# Altium schematic symbol library Connectors_EFR.SchLib: 133 symbols (part 2 of 3)
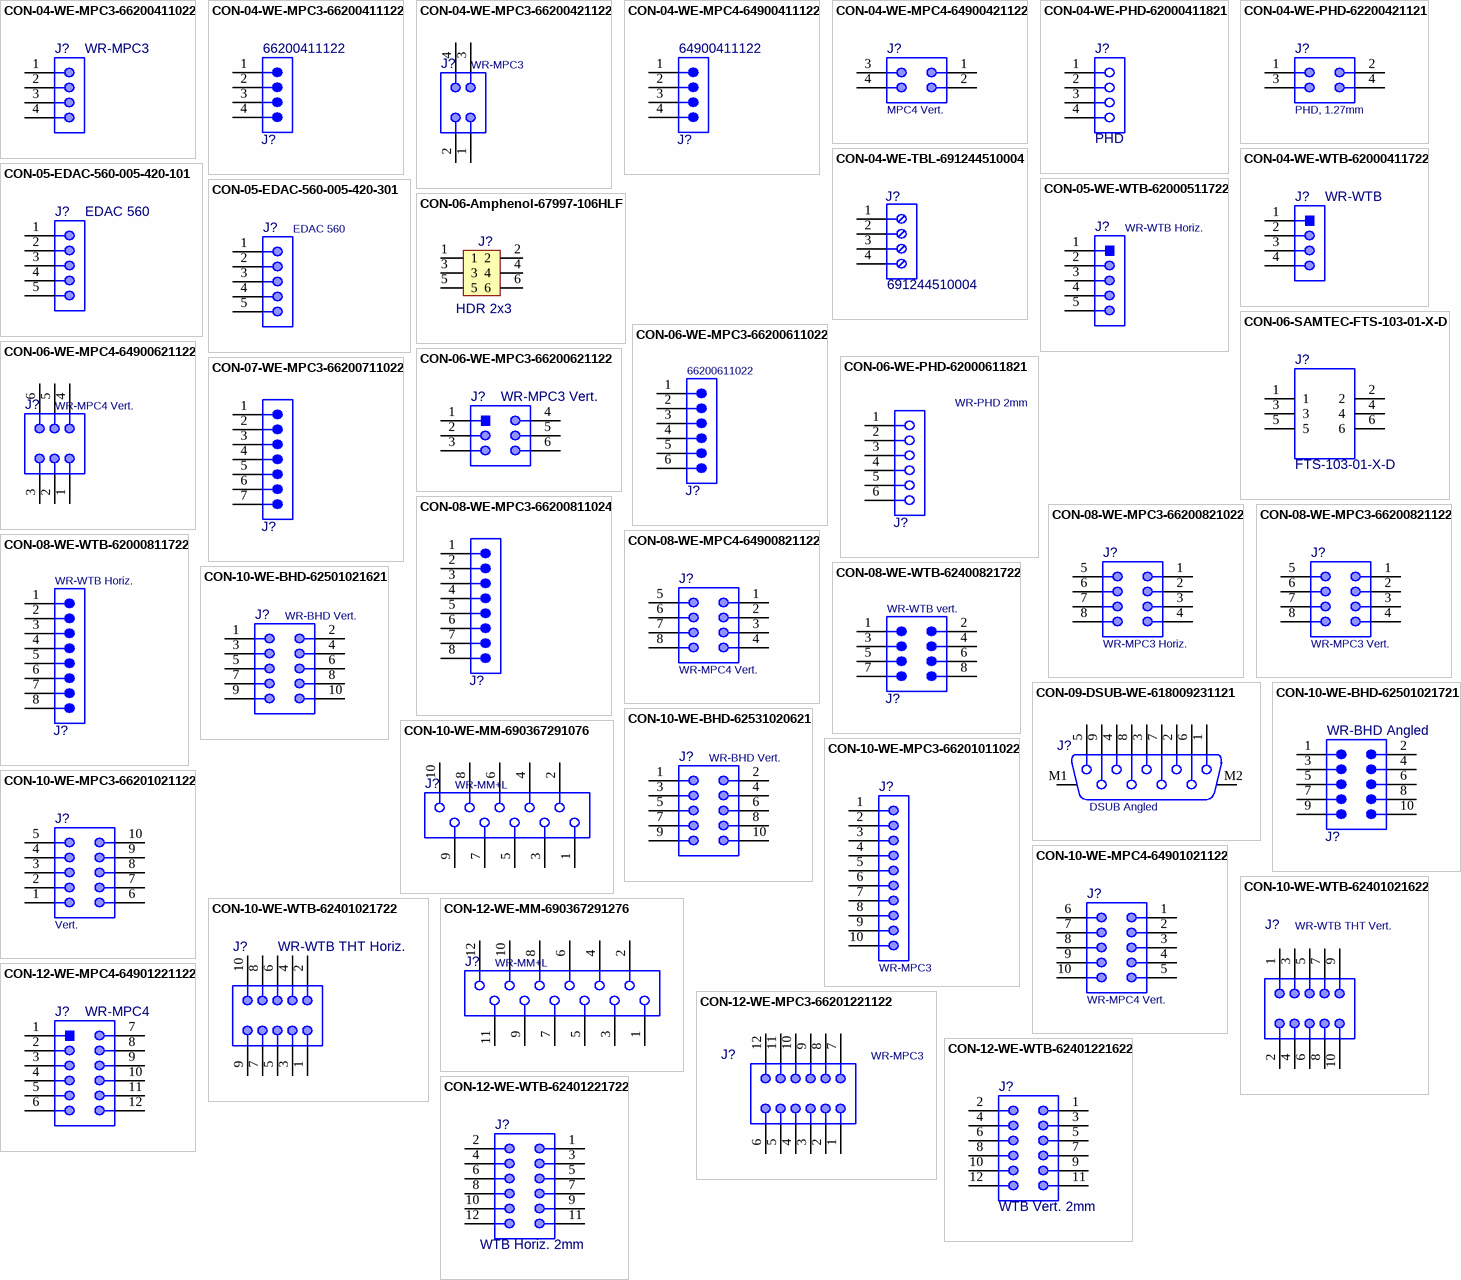
[diagram p5: symbols CON-04-WE-MPC3-66200411022 to CON-12-WE-WTB-62401221722]

## CON-08-WE-WTB-62400821722
designator J?, comment WR-WTB vert.
WR-WTB THT Male Horizontal Shrouded Header with positive locking, Dual Row, pitch 2mm, 8pins; Manufacturer P/N: 62400821722; Manufacturer: Würth Elektronik; Contact Resistance: 20mOhm; Rated Current: 3A; Working Voltage: 250VAC; Withstanding Voltage: 1000VAC; ComponentLink1Description: Website Link; ComponentLink1URL: https://www.we-online.com/redexpert/article/62400821722?ad; ComponentLink2Description: Datasheet Link; ComponentLink2URL: https://www.we-online.com/redexpert/spec/62400821722?ad; Category: Wire-to-Board Connectors; Match Code: WR-WTB; Mounting Technology: THT; Operating Temperature Max: 85°C; Operating Temperature Min: -25°C; Packaging: Tube; Length: 11.4mm; Width: 14.5mm; Height: 11.7mm; Gender: Male; Number of Pins: 8; Number of Rows: 2; Orientation: Horizontal; Pitch: 2mm
footprint 62400821722
pins: 1, 2, 3, 4, 5, 6, 7, 8

## CON-09-DSUB-WE-618009231121
designator J?, comment DSUB Angled
WR-DSUB 8.08mm Female PCB Connector with Hex Screw, Angled, 9p; Manufacturer P/N: 618009231121; Manufacturer: Würth Elektronik; Pin Number: 9; Rated Current: 3A; Contact Resistance: 30mOhm; Working Voltage: 125VAC; Withstanding Voltage: 1000VAC; ComponentLink1Description: Manufacturer; ComponentLink1URL: https://www.we-online.com/en/components/products/DSUB_FEMALE_ANGLED_PCB_CONNECTOR_W_HEX_SCREW_8_08MM_6180XX231121#618009231121; ComponentLink2Description: Datasheet; ComponentLink2URL: https://www.we-online.com/catalog/datasheet/618009231121.pdf; Published Date: April 2021; Type: Angled; Operating Temperature: -55 to +105degC; Mounting Technology: THT; Gender: Female; Packaging: Tray
footprint CON-09-DSUB-WE-618009231121 (9 pins, right angled, 8.08mm, with hex screw)
pins: 1, 2, 3, 4, 5, 6, 7, 8, 9, M1, M2

## CON-10-WE-BHD-62501021621
designator J?, comment WR-BHD Vert.
Male Box Header WR-BHD with long lever, THT, Vertical, pitch 2.00 mm, 10 pins; Manufacturer P/N: 62501021621; Manufacturer: Würth Elektronik; PinNumber: 10; Pitch: 2.00 mm; Working Voltage: 250 VAC; Withstanding Voltage: 500 VAC; Contact Resistance: 20 mOhm; Current (A): 3; ComponentLink1Description: Manufacturer; ComponentLink1URL: http://www.we-online.de; ComponentLink2Description: Datasheet; ComponentLink2URL: https://katalog.we-online.de/em/datasheet/6250xx21621.pdf; Operating Temperature: -40 to 125 degC; Packaging: Tray; Gender: Male; Mounting Technology: THT; Orientation: Vertical; Resistance: 20 mOhm; Capacitance: *; Tolerance: *; Power (W): *; Voltage (V): 250 VAC; Typ: *
footprint CON-10-WE-BHD-62501021621 (2.00mm Male Box Header, 10p)
pins: 1, 2, 3, 4, 5, 6, 7, 8, 9, 10

## CON-10-WE-BHD-62501021721
designator J?, comment WR-BHD Angled
WR-BHD Male Box Header, THT Right Angle, pitch 2mm, 2 Row, 10 pin; Manufacturer P/N: 62501021721; Manufacturer: Würth Elektronik; Contact Resistance: 20mOhm; Insulation Resistance: 1000MOhm; Rated Current: 2A; Working Voltage: 250V; Withstanding Voltage: 500V; Category: Wire-to-Board Connectors; Match Code: WR-BHD; ComponentLink1Description: Website Link; ComponentLink1URL: https://www.we-online.com/redexpert/article/62501021721?ad; ComponentLink2Description: Datasheet Link; ComponentLink2URL: https://www.we-online.com/redexpert/spec/62501021721?ad; Mounting Technology: THT; Operating Temperature Max: 105°C; Operating Temperature Min: -40°C; Packaging: Tray; Length: 17.25mm; Width: 8.45mm; Height: 5.5mm; Gender: Male; Number of Pins: 10; Number of Rows: 2; Orientation: Right Angle; Pitch: 2mm
footprint CON-10-WE-BHD-62501021721 (2.00mm Male Angled Box Header, 10p)
pins: 1, 2, 3, 4, 5, 6, 7, 8, 9, 10

## CON-10-WE-BHD-62531020621
designator J?, comment WR-BHD Vert.
Male Box Header WR-BHD, SMT, Vertical, pitch 2.00 mm, 10 pins; Manufacturer P/N: 62531020621; Manufacturer: Würth Elektronik; PinNumber: 10; Pitch: 2.00 mm; Working Voltage: 250 VAC; Withstanding Voltage: 500 VAC; Contact Resistance: 20 mOhm; Current (A): 2; ComponentLink1Description: Manufacturer; ComponentLink1URL: http://www.we-online.de; ComponentLink2Description: Datasheet; ComponentLink2URL: https://katalog.we-online.de/em/datasheet/6253xx20621.pdf; Operating Temperature: -40 to 105 degC; Packaging: Tape and Reel; Gender: Male; Mounting Technology: SMT; Orientation: Vertical; Resistance: 20 mOhm; Capacitance: *; Tolerance: *; Value: *; Voltage (V): 250 VAC; Power (W): *; Typ: *
footprint CON-10-WE-BHD-62531020621 (2.00mm Male SMT Box Header, 10p)
pins: 1, 2, 3, 4, 5, 6, 7, 8, 9, 10

## CON-10-WE-MM-690367291076
designator J?, comment WR-MM+L
WR-MM MiniModule Connector, Female, SMT, Vertical, pitch 2.54mm, 10pins; Manufacturer P/N: 690367291076; Manufacturer: Würth Elektronik; PinNumber: 10; Insulation Resistance: >1000MOhm; Rated Current: 1.5A; Working Voltage: 100VAC; Withstanding Voltage: 500VAC; Contact Resistance: 10mOhm; Resistance: 0R010; Current (A): 1.5; Voltage (V): 100; ComponentLink1Description: Manufacturer; ComponentLink1URL: http://www.we-online.de; ComponentLink2Description: Datasheet; ComponentLink2URL: https://katalog.we-online.de/em/datasheet/690367291076.pdf; Published Date: June 2019; Publisher: Wurth Elektronik; Pitch: 2.54mm; Operating Temperature: -40 to +105degC; Mounting Technology: SMT; Packaging: Tape and Reel; Gender: Female; Orientation: Vertical; Capacitance: *; Power (W): *; Value: =PartNumber; Tolerance: *; Type: *
footprint CON-10-WE-690367291076 (MiniModule Connectors, PCB Type, Female, SMT, Vertical, 10p)
pins: 1, 2, 3, 4, 5, 6, 7, 8, 9, 10

## CON-10-WE-MPC3-66201011022
designator J?, comment WR-MPC3
THT Male Header WR-MPC3, with Snap-in Plastic Pegs, Right Angled, Single Row, pitch 3 mm, 10 pins; Manufacturer P/N: 66201011022; Manufacturer: Würth Elektronik; Pitch: 3 mm; Working Voltage: 250 VAC; Contact Resistance: 10 mOhm; PinNumber: 10; ComponentLink1Description: Manufacturer; ComponentLink1URL: http://www.we-online.de; ComponentLink2Description: Datasheet; ComponentLink2URL: https://katalog.we-online.de/em/datasheet/6620xx11022.pdf; Published Date: September 2018; Operating Temperature: -40 to 105 degC; Packaging: Tube; Gender: Male; Mounting Technology: THT; Orientation: Right Angled
footprint CON-10-WE-66201011022 (3.00mm Male Single Row Angled Header with Plastic Pegs, 10p)
pins: 1, 2, 3, 4, 5, 6, 7, 8, 9, 10

## CON-10-WE-MPC3-66201021122
designator J?, comment Vert.
THT Male Header WR-MPC3, Vertical, Dual Row, pitch 3 mm, 10 pins; Manufacturer P/N: 66201021122; Manufacturer: Würth Elektronik; Pitch: 3 mm; Working Voltage: 250 VAC; Contact Resistance: 10 mOhm; Pin Number: 10; ComponentLink1Description: Manufacturer; ComponentLink1URL: https://www.we-online.com/catalog/en/MPC3_3_00_MALE_DUAL_ROW_VERTICAL_HEADER_6620XX21122#66201021122; ComponentLink2Description: Datasheet; ComponentLink2URL: https://katalog.we-online.de/em/datasheet/6620xx21122.pdf; Published Date: September 2018; Operating Temperature: -40 to 105 degC; Packaging: Tube; Gender: Male; Mounting Technology: THT; Orientation: Vertical
footprint CON-10-WE-66201021122 (Dual row Vertical header 10p)
pins: 1, 2, 3, 4, 5, 6, 7, 8, 9, 10

## CON-10-WE-MPC4-64901021122
designator J?, comment WR-MPC4 Vert.
THT Male Header WR-MPC4, Vertical, Dual Row, pitch 4.2 mm, 10 pins; Manufacturer P/N: 64901021122; Manufacturer: Würth Elektronik; Pitch: 4.2 mm; Working Voltage: 600 VAC; Contact Resistance: 10 mOhm; PinNumber: 10; ComponentLink1Description: Manufacturer; ComponentLink1URL: http://www.we-online.de; ComponentLink2Description: Datasheet; ComponentLink2URL: https://katalog.we-online.de/em/datasheet/6490xx21122.pdf; Published Date: September 2018; Operating Temperature: -40 to 105 degC; Packaging: Tray; Gender: Male; Mounting Technology: THT; Orientation: Vertical
footprint CON-10-WE-64901021122 (4.20mm Male Dual Row Vertical Header, 10p)
pins: 1, 2, 3, 4, 5, 6, 7, 8, 9, 10

## CON-10-WE-WTB-62401021622
designator J?, comment WR-WTB THT Vert.
WR-WTB THT Male Vertical Shrouded Header with positive locking, Dual Row, pitch 2mm, 10p; Manufacturer: Würth Elektronik; Manufacturer P/N: 62401021622; Pin Number: 10; Contact Resistance: 20mOhm; Rated Current: 3A; Withstanding Voltage: 1000VAC; Working Voltage: 250VAC; ComponentLink1Description: Manufacturer; ComponentLink1URL: https://www.we-online.com/catalog/en/WTB_2_00_MALE_DUAL_ROW_VERTICAL_SHROUDED_HEADER_W_POSITIVE_LOCKING_6240XX21622#62401021622; ComponentLink2Description: Datasheet; ComponentLink2URL: https://www.we-online.com/catalog/datasheet/62401021622.pdf; Pitch: 2mm; Published Date: January 2020; Mounting Technology: THT; Packaging: Tube; Operating Temperature: -25 to +85degC; Gender: Male; Type: Vertical
footprint CON-10-WE-62401021622 (2.00mm Male Dual Row Vertical Shrouded Header with positive locking, 10p)
pins: 1, 2, 3, 4, 5, 6, 7, 8, 9, 10

## CON-10-WE-WTB-62401021722
designator J?, comment WR-WTB THT Horiz.
WR-WTB THT Male Horizontal Shrouded Header with positive locking, Dual Row, pitch 2mm, 10p; Manufacturer: Würth Elektronik; Manufacturer P/N: 62401021722; Pin Number: 10; Contact Resistance: 20mOhm; Rated Current: 3A; Withstanding Voltage: 1000VAC; Working Voltage: 250VAC; ComponentLink1Description: Manufacturer; ComponentLink1URL: https://www.we-online.com/catalog/en/WTB_2_00_MALE_DUAL_ROW_HORIZONTAL_SHROUDED_HEADER_W_POSITIVE_LOCKING_6240XX21722#62401021722; ComponentLink2Description: Datasheet; ComponentLink2URL: https://www.we-online.com/catalog/datasheet/62401021722.pdf; Pitch: 2mm; Published Date: January 2020; Mounting Technology: THT; Packaging: Tube; Operating Temperature: -25 to +85degC; Gender: Male; Type: Horizontal
footprint CON-10-WE-62401021722 (2.00mm Male Dual Row Horizontal Shrouded Header with positive locking, 10p)
pins: 1, 2, 3, 4, 5, 6, 7, 8, 9, 10

## CON-12-WE-MM-690367291276
designator J?, comment WR-MM+L
WR-MM MiniModule Connector, Female, SMT, Vertical, pitch 2.54mm, 12pins; Manufacturer P/N: 690367291276; Manufacturer: Würth Elektronik; PinNumber: 12; Insulation Resistance: >1000MOhm; Rated Current: 1.5A; Working Voltage: 100VAC; Withstanding Voltage: 500VAC; Contact Resistance: 10mOhm; Voltage (V): 100; Current (A): 1,5; Resistance: 0R010; ComponentLink1Description: Manufacturer; ComponentLink1URL: http://www.we-online.de; ComponentLink2Description: Datasheet; ComponentLink2URL: https://katalog.we-online.de/em/datasheet/690367291276.pdf; Published Date: June 2019; Publisher: Wurth Elektronik; Pitch: 2.54mm; Operating Temperature: -40 to +105degC; Mounting Technology: SMT; Packaging: Tape and Reel; Gender: Female; Orientation: Vertical; Value: =PartNumber; Capacitance: *; Power (W): *; Tolerance: *; Type: *
footprint CON-12-WE-690367291276 (MiniModule Connectors, PCB Type, Female, SMT, Vertical, 12p)
pins: 1, 2, 3, 4, 5, 6, 7, 8, 9, 10, 11, 12

## CON-12-WE-MPC3-66201221122
designator J?, comment WR-MPC3
THT Male Header WR-MPC3, Vertical, Dual Row, pitch 3 mm, 12 pins; Manufacturer P/N: 66201221122; Manufacturer: Würth Elektronik; Pitch: 3 mm; Working Voltage: 250 VAC; Contact Resistance: 10 mOhm; PinNumber: 12; ComponentLink1Description: Manufacturer; ComponentLink1URL: http://www.we-online.de; ComponentLink2Description: Datasheet; ComponentLink2URL: https://katalog.we-online.de/em/datasheet/6620xx21122.pdf; Published Date: September 2018; Operating Temperature: -40 to 105 degC; Packaging: Tube; Gender: Male; Mounting Technology: THT; Orientation: Vertical
footprint CON-12-WE-66201221122 (Dual row Vertical header 12p)
pins: 1, 2, 3, 4, 5, 6, 7, 8, 9, 10, 11, 12

## CON-12-WE-MPC4-64901221122
designator J?, comment WR-MPC4
THT Male Header WR-MPC4, Vertical, Dual Row, pitch 4.2 mm, 12 pins; Manufacturer P/N: 64901221122; Manufacturer: Würth Elektronik; Contact Resistance: 10mOhm; Pitch: 4.2mm; Working Voltage: 600VAC; PinNumber: 12; Mounting Technology: THT; Publisher: WurthElektronik; Operating Temperature: -40to105degC; Gender: Male; Package Reference: 64901221122; Datasheet URL: https://katalog.we-online.de/em/datasheet/6490xx21122.pdf; Orientation: Vertical; ComponentLink1Description: Datenblatt; ComponentLink1URL: https://katalog.we-online.de/em/datasheet/64901221122.pdf; ComponentLink2Description: Hersteller; ComponentLink2URL: https://katalog.we-online.de/de/em/MPC4_4_20_MALE_DUAL_ROW_VERTICAL_HEADER_6490XX21122
footprint CON-12-WE-64901221122 (Footprint not found)
pins: 1, 2, 3, 4, 5, 6, 7, 8, 9, 10, 11, 12

## CON-12-WE-WTB-62401221622
designator J?, comment WTB Vert. 2mm
WR-WTB THT Male Vertical Shrouded Header with positive locking, Dual Row, pitch 2mm, 12p; Manufacturer: Würth Elektronik; Manufacturer P/N: 62401221622; Pin Number: 12; Contact Resistance: 20mOhm; Rated Current: 3A; Withstanding Voltage: 1000VAC; Working Voltage: 250VAC; ComponentLink1Description: Manufacturer; ComponentLink1URL: http://www.we-online.de; ComponentLink2Description: Datasheet; ComponentLink2URL: https://www.we-online.com/catalog/datasheet/62401221622.pdf; Pitch: 2mm; Published Date: January 2020; Mounting Technology: THT; Packaging: Tube; Operating Temperature: -25 to +85degC; Gender: Male; Type: Vertical
footprint CON-12-WE-62401221622 (2.00mm Male Dual Row Vertical Shrouded Header with positive locking, 12p)
footprint CON-12-WE-WTB-62401221722 (2.00mm Male Dual Row Horizontal Shrouded Header with positive locking, 12p)
pins: 1, 2, 3, 4, 5, 6, 7, 8, 9, 10, 11, 12

## CON-12-WE-WTB-62401221722
designator J?, comment WTB Horiz. 2mm
WR-WTB THT Male Horizontal Shrouded Header with positive locking, Dual Row, pitch 2mm, 12p; Manufacturer: Würth Elektronik; Manufacturer P/N: 62401221722; Pin Number: 12; Contact Resistance: 20mOhm; Rated Current: 3A; Withstanding Voltage: 1000VAC; Working Voltage: 250VAC; ComponentLink1Description: Manufacturer; ComponentLink1URL: https://www.we-online.com/katalog/de/WTB_2_00_MALE_DUAL_ROW_HORIZONTAL_SHROUDED_HEADER_W_POSITIVE_LOCKING_6240XX21722#62401221722; ComponentLink2Description: Datasheet; ComponentLink2URL: https://www.we-online.com/catalog/datasheet/62401221722.pdf; Pitch: 2mm; Mounting Technology: THT; Packaging: Tube; Operating Temperature: -25 to +85degC; Gender: Male; Orientation: Horizontal
footprint CON-12-WE-62401221722 (2.00mm Male Dual Row Horizontal Shrouded Header with positive locking, 12p)
pins: 1, 2, 3, 4, 5, 6, 7, 8, 9, 10, 11, 12

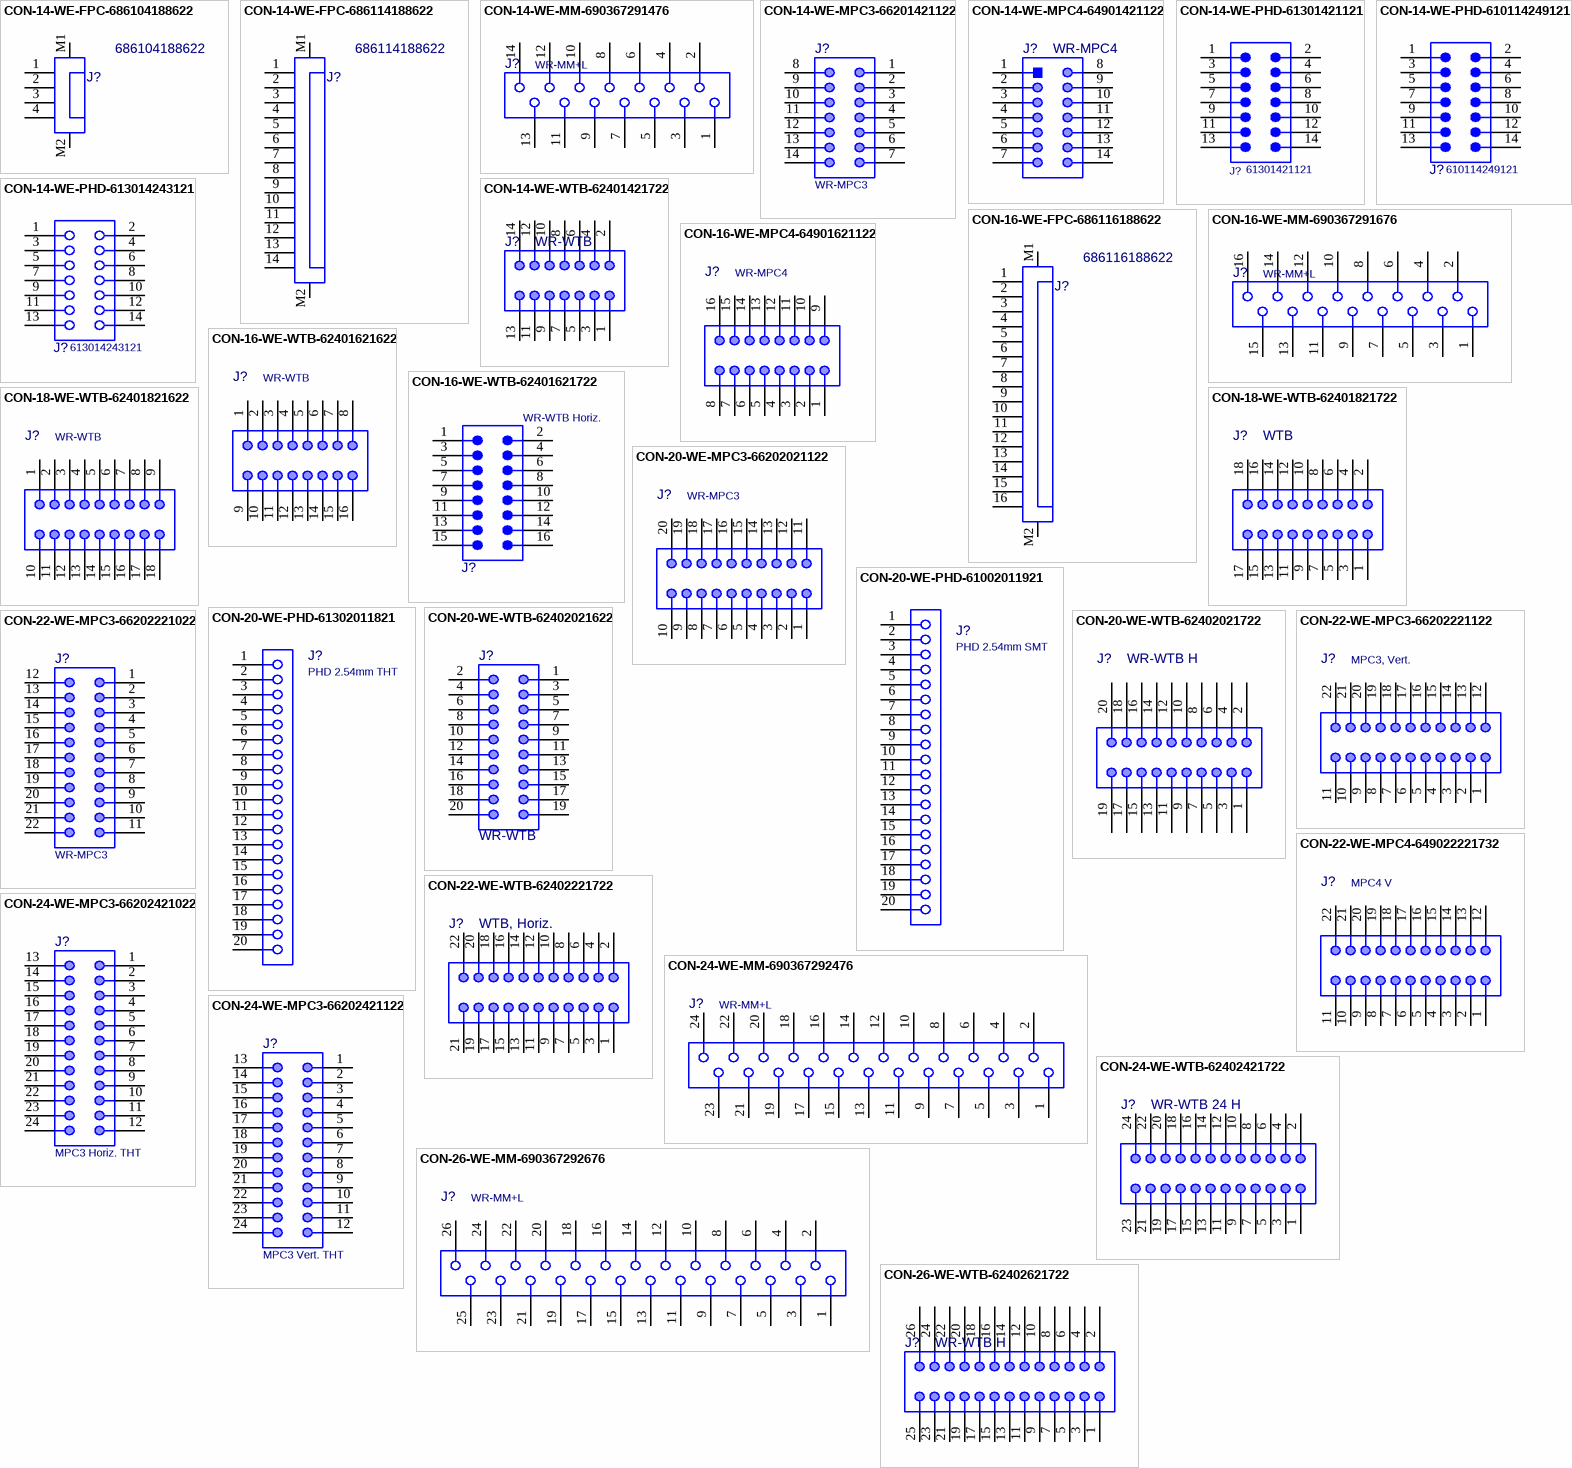
[diagram p2: symbols CON-14-WE-FPC-686104188622 to CON-26-WE-WTB-62402621722]

## CON-14-WE-FPC-686104188622
designator J?, comment 686104188622
WR-FPC SMT LIF Horizontal Top Contact, pitch 1mm, Horizontal, 4pins; Manufacturer: Würth Elektronik; Contact Resistance: 30mΩ; Rated Current: 1A; Working Voltage: 125VAC; ComponentLink1Description: Website Link; ComponentLink1URL: https://www.we-online.com/redexpert/article/686104188622?ad; ComponentLink2Description: Datasheet Link; ComponentLink2URL: https://www.we-online.com/redexpert/spec/686104188622?ad; Manufacturer P/N: 686104188622; Category: FPC Connectors; Match Code: WR-FPC; Mounting Technology: SMT; Operating Temperature Max: 85°C; Operating Temperature Min: -25°C; Packaging: Tape and Reel; Length: 7.8mm; Width: 6.8mm; Height: 3.1mm; Number of Pins: 4; Orientation: Horizontal; Pitch: 1mm
footprint 686104188622
pins: 1, 2, 3, 4, M1, M2

## CON-14-WE-FPC-686114188622
designator J?, comment 686114188622
WR-FPC SMT LIF Horizontal Top Contact, pitch 1mm, Horizontal, 14pins; Manufacturer: Würth Elektronik; Contact Resistance: 30mΩ; Rated Current: 1A; Working Voltage: 125VAC; ComponentLink1Description: Website Link; ComponentLink1URL: https://www.we-online.com/redexpert/article/686114188622?ad; ComponentLink2Description: Datasheet Link; ComponentLink2URL: https://www.we-online.com/redexpert/spec/686114188622?ad; Manufacturer P/N: 686114188622; Category: FPC Connectors; Match Code: WR-FPC; Mounting Technology: SMT; Operating Temperature Max: 85°C; Operating Temperature Min: -25°C; Packaging: Tape and Reel; Length: 17.8mm; Width: 6.8mm; Height: 3.1mm; Number of Pins: 14; Orientation: Horizontal; Pitch: 1mm
footprint 686114188622
pins: 1, 2, 3, 4, 5, 6, 7, 8, 9, 10, 11, 12, 13, 14, M1, M2

## CON-14-WE-MM-690367291476
designator J?, comment WR-MM+L
WR-MM MiniModule Connector, Female, SMT, Vertical, pitch 2.54mm, 14pins; Manufacturer P/N: 690367291476; Manufacturer: Würth Elektronik; PinNumber: 14; Insulation Resistance: >1000MOhm; Rated Current: 1.5A; Working Voltage: 100VAC; Withstanding Voltage: 500VAC; Contact Resistance: 10mOhm; Resistance: 0R010; Current (A): 1.5; Voltage (V): 100; ComponentLink1Description: Manufacturer; ComponentLink1URL: http://www.we-online.de; ComponentLink2Description: Datasheet; ComponentLink2URL: https://katalog.we-online.de/em/datasheet/690367291476.pdf; Published Date: June 2019; Publisher: Wurth Elektronik; Pitch: 2.54mm; Operating Temperature: -40 to +105degC; Mounting Technology: SMT; Packaging: Tape and Reel; Gender: Female; Orientation: Vertical; Capacitance: *; Power (W): *; Value: =PartNumber; Type: *; Tolerance: *
footprint CON-14-WE-690367291476 (MiniModule Connectors, PCB Type, Female, SMT, Vertical, 14p)
pins: 1, 2, 3, 4, 5, 6, 7, 8, 9, 10, 11, 12, 13, 14

## CON-14-WE-MPC3-66201421122
designator J?, comment WR-MPC3
THT Male Header WR-MPC3, Vertical, Dual Row, pitch 3 mm, 14 pins; Manufacturer P/N: 66201421122; Manufacturer: Würth Elektronik; Pitch: 3 mm; Working Voltage: 250 VAC; Contact Resistance: 10 mOhm; Pin Number: 14; ComponentLink1Description: Manufacturer; ComponentLink1URL: http://www.we-online.de; ComponentLink2Description: Datasheet; ComponentLink2URL: https://katalog.we-online.de/em/datasheet/6620xx21122.pdf; Published Date: September 2018; Operating Temperature: -40 to 105 degC; Packaging: Tube; Gender: Male; Mounting Technology: THT; Orientation: Vertical
footprint CON-14-WE-66201421122 (Dual row Vertical header 14p)
pins: 1, 2, 3, 4, 5, 6, 7, 8, 9, 10, 11, 12, 13, 14

## CON-14-WE-MPC4-64901421122
designator J?, comment WR-MPC4
THT Male Header WR-MPC4, Vertical, Dual Row, pitch 4.2 mm, 14 pins; Manufacturer: Würth Elektronik; Manufacturer P/N: 64901421122; PinNumber: 14; Pitch: 4.2mm; Working Voltage: 600VAC; Contact Resistance: 10mOhm; Orientation: Vertical; Mounting Technology: THT; Package Reference: 64901421122; Operating Temperature: -40to105degC; Gender: Male; ComponentLink1Description: Datasheet; ComponentLink1URL: https://katalog.we-online.de/em/datasheet/6490xx21122.pdf; ComponentLink2Description: Manufacturer; ComponentLink2URL: https://www.we-online.com/de/components/products/MPC4_4_20_MALE_DUAL_ROW_VERTICAL_HEADER_6490XX21122?sq=64901421122#64901421122
footprint CON-14-WE-64901421122 (4.20mm Male Dual Row Vertical Header, 14p)
pins: 1, 2, 3, 4, 5, 6, 7, 8, 9, 10, 11, 12, 13, 14

## CON-14-WE-PHD-61301421121
designator J?, comment 61301421121
WR-PHD Pin Header, THT, Vertical, pitch 2.54mm, 2 Row, 14P; Manufacturer: Würth Elektronik; Contact Resistance: 20mΩ; Rated Current: 3A; Working Voltage: 250V; Withstanding Voltage: 500V; ComponentLink1Description: Website Link; ComponentLink1URL: https://www.we-online.com/redexpert/article/61301421121?ad; ComponentLink2Description: Datasheet Link; ComponentLink2URL: https://www.we-online.com/redexpert/spec/61301421121?ad; Manufacturer P/N: 61301421121; Category: Board-to-Board Connectors; Match Code: WR-PHD; Mounting Technology: THT; Operating Temperature Max: 105°C; Operating Temperature Min: -40°C; Packaging: Bag; Gender: Pin Header; Number of Pins: 14; Number of Rows: 2; Orientation: Vertical; Pitch: 2.54mm
footprint 61301421121 (Pin Header, pitch 2.54 mm, THT, Vertical, dual row, 14p)
pins: 1, 2, 3, 4, 5, 6, 7, 8, 9, 10, 11, 12, 13, 14

## CON-14-WE-PHD-610114249121
designator J?, comment 610114249121
WR-PHD Pin Header, SMT, Angled, pitch 2.54mm, 2 Row, 14P; Manufacturer: Würth Elektronik; Contact Resistance: 20mΩ; Rated Current: 3A; Working Voltage: 250V; Withstanding Voltage: 600V; ComponentLink1Description: Website Link; ComponentLink1URL: https://www.we-online.com/redexpert/article/610114249121?ad; ComponentLink2Description: Datasheet Link; ComponentLink2URL: https://www.we-online.com/redexpert/spec/610114249121?ad; Manufacturer P/N: 610114249121; Category: Board-to-Board Connectors; Match Code: WR-PHD; Mounting Technology: SMT; Operating Temperature Max: 105°C; Operating Temperature Min: -40°C; Packaging: Tape and Reel; Gender: Pin Header; Number of Pins: 14; Number of Rows: 2; Orientation: Angled; Pitch: 2.54mm
footprint 610114249121
pins: 1, 2, 3, 4, 5, 6, 7, 8, 9, 10, 11, 12, 13, 14

## CON-14-WE-PHD-613014243121
designator J?, comment 613014243121
WR-PHD Socket Header, THT, Angled, pitch 2.54mm, 2 Row, 14P; Manufacturer: Würth Elektronik; Contact Resistance: 20mΩ; Rated Current: 3A; Working Voltage: 250V; Withstanding Voltage: 500V; ComponentLink1Description: Website Link; ComponentLink1URL: https://www.we-online.com/redexpert/article/613014243121?ad; ComponentLink2Description: Datasheet Link; ComponentLink2URL: https://www.we-online.com/redexpert/spec/613014243121?ad; Manufacturer P/N: 613014243121; Category: Board-to-Board Connectors; Match Code: WR-PHD; Mounting Technology: THT; Operating Temperature Max: 125°C; Operating Temperature Min: -40°C; Packaging: Tray; Gender: Socket Header; Number of Pins: 14; Number of Rows: 2; Orientation: Angled; Pitch: 2.54mm
footprint 613014243121
pins: 1, 2, 3, 4, 5, 6, 7, 8, 9, 10, 11, 12, 13, 14

## CON-14-WE-WTB-62401421722
designator J?, comment WR-WTB
WR-WTB THT Male Horizontal Shrouded Header with positive locking, Dual Row, pitch 2mm, 14p; Manufacturer: Würth Elektronik; Manufacturer P/N: 62401421722; Pin Number: 14; Contact Resistance: 20mOhm; Rated Current: 3A; Withstanding Voltage: 1000VAC; Working Voltage: 250VAC; ComponentLink1Description: Manufacturer; ComponentLink1URL: http://www.we-online.de; ComponentLink2Description: Datasheet; ComponentLink2URL: https://www.we-online.com/catalog/datasheet/62401421722.pdf; Pitch: 2mm; Published Date: January 2020; Mounting Technology: THT; Packaging: Tube; Operating Temperature: -25 to +85degC; Gender: Male; Orientation: Horizontal
footprint CON-14-WE-62401421722 (2.00mm Male Dual Row Horizontal Shrouded Header with positive locking, 14p)
pins: 1, 2, 3, 4, 5, 6, 7, 8, 9, 10, 11, 12, 13, 14

## CON-16-WE-FPC-686116188622
designator J?, comment 686116188622
WR-FPC SMT LIF Horizontal Top Contact, pitch 1mm, Horizontal, 16pins; Manufacturer: Würth Elektronik; Contact Resistance: 30mΩ; Rated Current: 1A; Working Voltage: 125VAC; ComponentLink1Description: Website Link; ComponentLink1URL: https://www.we-online.com/redexpert/article/686116188622?ad; ComponentLink2Description: Datasheet Link; ComponentLink2URL: https://www.we-online.com/redexpert/spec/686116188622?ad; Manufacturer P/N: 686116188622; Category: FPC Connectors; Match Code: WR-FPC; Mounting Technology: SMT; Operating Temperature Max: 85°C; Operating Temperature Min: -25°C; Packaging: Tape and Reel; Length: 19.8mm; Width: 6.8mm; Height: 3.1mm; Number of Pins: 16; Orientation: Horizontal; Pitch: 1mm
footprint 686116188622
pins: 1, 2, 3, 4, 5, 6, 7, 8, 9, 10, 11, 12, 13, 14, 15, 16, M1, M2

## CON-16-WE-MM-690367291676
designator J?, comment WR-MM+L
WR-MM MiniModule Connector, Female, SMT, Vertical, pitch 2.54mm, 16pins; Manufacturer P/N: 690367291676; Manufacturer: Würth Elektronik; PinNumber: 16; Insulation Resistance: >1000MOhm; Rated Current: 1.5A; Working Voltage: 100VAC; Withstanding Voltage: 500VAC; Contact Resistance: 10mOhm; Current (A): 1.5; Resistance: 0R010; Voltage (V): 100; ComponentLink1Description: Manufacturer; ComponentLink1URL: http://www.we-online.de; ComponentLink2Description: Datasheet; ComponentLink2URL: https://katalog.we-online.de/em/datasheet/690367291676.pdf; Published Date: June 2019; Publisher: Wurth Elektronik; Pitch: 2.54mm; Operating Temperature: -40 to +105degC; Mounting Technology: SMT; Packaging: Tape and Reel; Gender: Female; Orientation: Vertical; Type: *; Tolerance: *; Power (W): *; Capacitance: *; Value: =PartNumber
footprint CON-16-WE-690367291676 (MiniModule Connectors, PCB Type, Female, SMT, Vertical, 16p)
pins: 1, 2, 3, 4, 5, 6, 7, 8, 9, 10, 11, 12, 13, 14, 15, 16

## CON-16-WE-MPC4-64901621122
designator J?, comment WR-MPC4
THT Male Header WR-MPC4, Vertical, Dual Row, pitch 4.2 mm, 16 pins; Manufacturer P/N: 64901621122; Manufacturer: Würth Elektronik; Pitch: 4.2 mm; Working Voltage: 600 VAC; Contact Resistance: 10 mOhm; PinNumber: 16; ComponentLink1Description: Manufacturer; ComponentLink1URL: http://www.we-online.de; ComponentLink2Description: Datasheet; ComponentLink2URL: https://katalog.we-online.de/em/datasheet/6490xx21122.pdf; Published Date: September 2018; Operating Temperature: -40 to 105 degC; Packaging: Tray; Gender: Male; Mounting Technology: THT; Orientation: Vertical; Value: *; Current (A): *; Voltage (V): *; Power (W): *; Tolerance: *; Capacitance: *; Resistance: *
footprint CON-16-WE-64901621122 (4.20mm Male Dual Row Vertical Header, 16p)
pins: 1, 2, 3, 4, 5, 6, 7, 8, 9, 10, 11, 12, 13, 14, 15, 16

## CON-16-WE-WTB-62401621622
designator J?, comment WR-WTB
Male Shrouded Header WR-WTB, THT, Vertical, pitch 2 mm, 2 x 8 position; Manufacturer P/N: 62401621622; Manufacturer: Würth Elektronik; Pitch: 2 mm; Working Voltage: 250 VAC; Contact Resistance: 20 mOhm; Position: 2 x 8; ComponentLink1Description: Manufacturer; ComponentLink1URL: http://www.we-online.de; ComponentLink2Description: Datasheet; ComponentLink2URL: https://katalog.we-online.de/em/datasheet/6240xx21622.pdf; Published Date: September 2018; Operating Temperature: -25 to 85 degC; Packaging: Tube; Gender: Male; Mounting Technology: THT; Orientation: Vertical; Current (A): *; Voltage (V): *; Tolerance: *; Power (W): *; Capacitance: *; Resistance: *; Value: *; Typ: *
footprint CON-16-WE-62401621622 (2.00mm Male Dual Row Vertical Shrouded Header with positive locking, 16p)
pins: 1, 2, 3, 4, 5, 6, 7, 8, 9, 10, 11, 12, 13, 14, 15, 16

## CON-16-WE-WTB-62401621722
designator J?, comment WR-WTB Horiz.
WR-WTB THT Male Horizontal Shrouded Header with positive locking, Dual Row, pitch 2mm, 16pins; Manufacturer P/N: 62401621722; Manufacturer: Würth Elektronik; Contact Resistance: 20mOhm; Rated Current: 3A; Working Voltage: 250VAC; Withstanding Voltage: 1000VAC; ComponentLink1Description: Website Link; ComponentLink1URL: https://www.we-online.com/redexpert/article/62401621722?ad; ComponentLink2Description: Datasheet Link; ComponentLink2URL: https://www.we-online.com/redexpert/spec/62401621722?ad; Category: Wire-to-Board Connectors; Match Code: WR-WTB; Mounting Technology: THT; Operating Temperature Max: 85°C; Operating Temperature Min: -25°C; Packaging: Tube; Length: 19.4mm; Width: 14.5mm; Height: 11.7mm; Gender: Male; Number of Pins: 16; Number of Rows: 2; Orientation: Horizontal; Pitch: 2mm
footprint 62401621722 (2.00mm Male Dual Row Horizontal Shrouded Header with positive locking, 16p)
pins: 1, 2, 3, 4, 5, 6, 7, 8, 9, 10, 11, 12, 13, 14, 15, 16

## CON-18-WE-WTB-62401821622
designator J?, comment WR-WTB
Male Shrouded Header WR-WTB, THT, Vertical, pitch 2 mm, 2 x 9 position; Manufacturer P/N: 62401821622; Manufacturer: Würth Elektronik; Pitch: 2 mm; Working Voltage: 250 VAC; Contact Resistance: 20 mOhm; PinNumber: 2 x 9; ComponentLink1Description: Manufacturer; ComponentLink1URL: http://www.we-online.de; ComponentLink2Description: Datasheet; ComponentLink2URL: https://katalog.we-online.de/em/datasheet/6240xx21622.pdf; Published Date: September 2018; Operating Temperature: -25 to 85 degC; Packaging: Tube; Gender: Male; Mounting Technology: THT; Orientation: Vertical; Current (A): *; Voltage (V): *; Power (W): *; Typ: *; Value: *; Capacitance: *; Resistance: *; Tolerance: *
footprint CON-18-WE-62401821622 (2.00mm Male Dual Row Vertical Shrouded Header with positive locking, 18p)
pins: 1, 2, 3, 4, 5, 6, 7, 8, 9, 10, 11, 12, 13, 14, 15, 16, 17, 18

## CON-18-WE-WTB-62401821722
designator J?, comment WTB
WR-WTB THT Male Horizontal Shrouded Header with positive locking, Dual Row, pitch 2mm, 18p; Manufacturer: Würth Elektronik; Manufacturer P/N: 62401821722; Pin Number: 18; Contact Resistance: 20mOhm; Rated Current: 3A; Withstanding Voltage: 1000VAC; Working Voltage: 250VAC; ComponentLink1Description: Manufacturer; ComponentLink1URL: http://www.we-online.de; ComponentLink2Description: Datasheet; ComponentLink2URL: https://www.we-online.com/catalog/datasheet/62401821722.pdf; Pitch: 2mm; Published Date: January 2020; Mounting Technology: THT; Packaging: Tube; Operating Temperature: -25 to +85degC; Gender: Male; Orientation: Horizontal
footprint CON-18-WE-62401821722 (2.00mm Male Dual Row Horizontal Shrouded Header with positive locking, 18p)
pins: 1, 2, 3, 4, 5, 6, 7, 8, 9, 10, 11, 12, 13, 14, 15, 16, 17, 18

## CON-20-WE-MPC3-66202021122
designator J?, comment WR-MPC3
THT Male Header WR-MPC3, Vertical, Dual Row, pitch 3 mm, 20 pins; Manufacturer P/N: 66202021122; Manufacturer: Würth Elektronik; Pitch: 3 mm; Working Voltage: 250 VAC; Contact Resistance: 10 mOhm; PinNumber: 20; ComponentLink1Description: Manufacturer; ComponentLink1URL: http://www.we-online.de; ComponentLink2Description: Datasheet; ComponentLink2URL: https://katalog.we-online.de/em/datasheet/6620xx21122.pdf; Published Date: September 2018; Operating Temperature: -40 to 105 degC; Packaging: Tube; Gender: Male; Mounting Technology: THT; Orientation: Vertical
footprint CON-20-WE-66202021122 (Dual row Vertical header 20p)
pins: 1, 2, 3, 4, 5, 6, 7, 8, 9, 10, 11, 12, 13, 14, 15, 16, 17, 18, 19, 20

## CON-20-WE-PHD-61002011921
designator J?, comment PHD 2.54mm SMT
WR-PHD Socket Header, SMT, pitch 2.54mm, Single Row, Vertical, 20pin; Manufacturer P/N: 61002011921; Manufacturer: Würth Elektronik; PinNumber: 20; Gender: Female; Rated Current: 3A; Working Voltage: 250VAC; Withstanding Voltage: 500VAC; Contact Resistance: 20mOhm; ComponentLink1Description: Manufacturer; ComponentLink1URL: http://www.we-online.de; ComponentLink2Description: Datasheet; ComponentLink2URL: https://katalog.we-online.de/em/datasheet/6100xx11921.pdf; Published Date: June 2019; Pitch: 2.54mm; Operating Temperature: -40 to +125degC; Mounting Technology: SMT; Packaging: Tube; Row Number: Single; Orientation: Vertical
footprint CON-20-WE-61002011921 (Socket Header, Pitch 2.54 mm, SMT, Vertical, single row, 20p)
pins: 1, 2, 3, 4, 5, 6, 7, 8, 9, 10, 11, 12, 13, 14, 15, 16, 17, 18, 19, 20

## CON-20-WE-PHD-61302011821
designator J?, comment PHD 2.54mm THT
WR-PHD Socket Header, THT, pitch 2.54mm, Single Row, Vertical, 20pin; Manufacturer P/N: 61302011821; Manufacturer: Würth Elektronik; Pin Number: 20; Gender: Female; Rated Current: 3A; Working Voltage: 250VAC; Withstanding Voltage: 500VAC; Contact Resistance: 20mOhm; ComponentLink1Description: Manufacturer; ComponentLink1URL: http://www.we-online.de; ComponentLink2Description: Datasheet; ComponentLink2URL: https://katalog.we-online.de/em/datasheet/6130xx11821.pdf; Published Date: June 2019; Pitch: 2.54mm; Operating Temperature: -40 to +125degC; Mounting Technology: THT; Packaging: Tray; Row Number: Single; Orientation: Vertical
footprint CON-20-WE-61302011821 (Socket Header, Pitch 2.54 mm, THT, Vertical, single row, 20p)
pins: 1, 2, 3, 4, 5, 6, 7, 8, 9, 10, 11, 12, 13, 14, 15, 16, 17, 18, 19, 20

## CON-20-WE-WTB-62402021622
designator J?, comment WR-WTB
WR-WTB THT Male Vertical Shrouded Header with positive locking, Dual Row, pitch 2mm, 20p; Manufacturer: Würth Elektronik; Manufacturer P/N: 62402021622; Pin Number: 20; Contact Resistance: 20mOhm; Rated Current: 3A; Withstanding Voltage: 1000VAC; Working Voltage: 250VAC; ComponentLink1Description: Manufacturer; ComponentLink1URL: http://www.we-online.de; ComponentLink2Description: Datasheet; ComponentLink2URL: https://www.we-online.com/catalog/datasheet/62402021622.pdf; Pitch: 2mm; Published Date: January 2020; Mounting Technology: THT; Packaging: Tube; Operating Temperature: -25 to +85degC; Gender: Male; Type: Vertical
footprint CON-20-WE-62402021622 (2.00mm Male Dual Row Vertical Shrouded Header with positive locking, 20p)
pins: 1, 2, 3, 4, 5, 6, 7, 8, 9, 10, 11, 12, 13, 14, 15, 16, 17, 18, 19, 20

## CON-20-WE-WTB-62402021722
designator J?, comment WR-WTB H
WR-WTB THT Male Horizontal Shrouded Header with positive locking, Dual Row, pitch 2mm, 20p; Manufacturer: Würth Elektronik; Manufacturer P/N: 62402021722; Pin Number: 20; Contact Resistance: 20mOhm; Rated Current: 3A; Withstanding Voltage: 1000VAC; Working Voltage: 250VAC; ComponentLink1Description: Manufacturer; ComponentLink1URL: http://www.we-online.de; ComponentLink2Description: Datasheet; ComponentLink2URL: https://www.we-online.com/catalog/datasheet/62402021722.pdf; Pitch: 2mm; Published Date: January 2020; Mounting Technology: THT; Packaging: Tube; Operating Temperature: -25 to +85degC; Gender: Male; Orientation: Horizontal
footprint CON-20-WE-62402021722 (2.00mm Male Dual Row Horizontal Shrouded Header with positive locking, 20p)
pins: 1, 2, 3, 4, 5, 6, 7, 8, 9, 10, 11, 12, 13, 14, 15, 16, 17, 18, 19, 20

## CON-22-WE-MPC3-66202221022
designator J?, comment WR-MPC3
THT Male Header WR-MPC3, with Snap-in Plastic Pegs, Right Angled, Dual Row, pitch 3 mm, 22 pins; Manufacturer P/N: 66202221022; Manufacturer: Würth Elektronik; Pitch: 3 mm; Working Voltage: 250 VAC; Contact Resistance: 10 mOhm; Pin Number: 22; ComponentLink1Description: Manufacturer; ComponentLink1URL: http://www.we-online.de; ComponentLink2Description: Datasheet; ComponentLink2URL: https://katalog.we-online.de/em/datasheet/6620xx21022.pdf; Published Date: September 2018; Operating Temperature: -40 to 105 degC; Packaging: Tube; Gender: Male; Mounting Technology: THT; Orientation: Right Angled
footprint CON-22-WE-66202221022 (Dual row Right angle header With plastic peg 22p)
pins: 1, 2, 3, 4, 5, 6, 7, 8, 9, 10, 11, 12, 13, 14, 15, 16, 17, 18, 19, 20, 21, 22

## CON-22-WE-MPC3-66202221122
designator J?, comment MPC3, Vert.
THT Male Header WR-MPC3, Vertical, Dual Row, pitch 3 mm, 22 pins; Manufacturer P/N: 66202221122; Manufacturer: Würth Elektronik; Pitch: 3 mm; Working Voltage: 250 VAC; Contact Resistance: 10 mOhm; Pin Number: 22; ComponentLink1Description: Manufacturer; ComponentLink1URL: http://www.we-online.de; ComponentLink2Description: Datasheet; ComponentLink2URL: https://katalog.we-online.de/em/datasheet/6620xx21122.pdf; Published Date: September 2018; Operating Temperature: -40 to 105 degC; Packaging: Tube; Gender: Male; Mounting Technology: THT; Orientation: Vertical
footprint CON-22-WE-66202221122 (Dual row Vertical header 22p)
pins: 1, 2, 3, 4, 5, 6, 7, 8, 9, 10, 11, 12, 13, 14, 15, 16, 17, 18, 19, 20, 21, 22

## CON-22-WE-MPC4-649022221732
designator J?, comment MPC4 V
THT Male Header WR-MPC4, with Snap-in Plastic Pegs, Vertical, Dual Row, pitch 4.2 mm, 22 pins; Manufacturer P/N: 649022221732; Manufacturer: Würth Elektronik; Pitch: 4.2 mm; Working Voltage: 600 VAC; Contact Resistance: 10 mOhm; Pin Number: 22; ComponentLink1Description: Manufacturer; ComponentLink1URL: http://www.we-online.de; ComponentLink2Description: Datasheet; ComponentLink2URL: https://katalog.we-online.de/em/datasheet/6490xx221732.pdf; Published Date: November 2019; Operating Temperature: -40 to 105 degC; Packaging: Tray; Gender: Male; Mounting Technology: THT; Orientation: Vertical
footprint CON-22-WE-649022221732 (4.20mm Male Dual Row Vertical Header with Mounting Pegs, 22p)
pins: 1, 2, 3, 4, 5, 6, 7, 8, 9, 10, 11, 12, 13, 14, 15, 16, 17, 18, 19, 20, 21, 22

## CON-22-WE-WTB-62402221722
designator J?, comment WTB, Horiz.
WR-WTB THT Male Horizontal Shrouded Header with positive locking, Dual Row, pitch 2mm, 22p; Manufacturer: Würth Elektronik; Manufacturer P/N: 62402221722; Pin Number: 22; Contact Resistance: 20mOhm; Rated Current: 3A; Withstanding Voltage: 1000VAC; Working Voltage: 250VAC; ComponentLink1Description: Manufacturer; ComponentLink1URL: http://www.we-online.de; ComponentLink2Description: Datasheet; ComponentLink2URL: https://www.we-online.com/catalog/datasheet/62402221722.pdf; Pitch: 2mm; Published Date: January 2020; Mounting Technology: THT; Packaging: Tube; Operating Temperature: -25 to +85degC; Gender: Male; Type: Horizontal
footprint CON-22-WE-62402221722 (2.00mm Male Dual Row Horizontal Shrouded Header with positive locking, 22p)
pins: 1, 2, 3, 4, 5, 6, 7, 8, 9, 10, 11, 12, 13, 14, 15, 16, 17, 18, 19, 20, 21, 22

## CON-24-WE-MM-690367292476
designator J?, comment WR-MM+L
WR-MM MiniModule Connector, Female, SMT, Vertical, pitch 2.54mm, 24pins; Manufacturer P/N: 690367292476; Manufacturer: Würth Elektronik; PinNumber: 24; Insulation Resistance: >1000MOhm; Rated Current: 1.5A; Working Voltage: 100VAC; Withstanding Voltage: 500VAC; Contact Resistance: 10mOhm; Current (A): 1.5; Resistance: 0R010; Voltage (V): 100; ComponentLink1Description: Manufacturer; ComponentLink1URL: http://www.we-online.de; ComponentLink2Description: Datasheet; ComponentLink2URL: https://katalog.we-online.de/em/datasheet/690367292476.pdf; Published Date: June 2019; Publisher: Wurth Elektronik; Pitch: 2.54mm; Operating Temperature: -40 to +105degC; Mounting Technology: SMT; Packaging: Tape and Reel; Gender: Female; Orientation: Vertical; Power (W): *; Tolerance: *; Capacitance: *; Type: *; Value: =PartNumber
footprint CON-24-WE-690367292476 (MiniModule Connectors, PCB Type, Female, SMT, Vertical, 24p)
pins: 1, 2, 3, 4, 5, 6, 7, 8, 9, 10, 11, 12, 13, 14, 15, 16, 17, 18, 19, 20, 21, 22, 23, 24

## CON-24-WE-MPC3-66202421022
designator J?, comment MPC3 Horiz. THT
THT Male Header WR-MPC3, with Snap-in Plastic Pegs, Right Angled, Dual Row, pitch 3 mm, 24 pins; Manufacturer P/N: 66202421022; Manufacturer: Würth Elektronik; Pitch: 3 mm; Working Voltage: 250 VAC; Contact Resistance: 10 mOhm; Pin Number: 24; ComponentLink1Description: Manufacturer; ComponentLink1URL: http://www.we-online.de; ComponentLink2Description: Datasheet; ComponentLink2URL: https://katalog.we-online.de/em/datasheet/6620xx21022.pdf; Published Date: September 2018; Operating Temperature: -40 to 105 degC; Packaging: Tube; Gender: Male; Mounting Technology: THT; Orientation: Right Angled
footprint CON-24-WE-66202421022 (Dual row Right angle header With plastic peg 24p)
pins: 1, 2, 3, 4, 5, 6, 7, 8, 9, 10, 11, 12, 13, 14, 15, 16, 17, 18, 19, 20, 21, 22, 23, 24

## CON-24-WE-MPC3-66202421122
designator J?, comment MPC3 Vert. THT
THT Male Header WR-MPC3, Vertical, Dual Row, pitch 3 mm, 24 pins; Manufacturer P/N: 66202421122; Manufacturer: Würth Elektronik; Pitch: 3 mm; Working Voltage: 250 VAC; Contact Resistance: 10 mOhm; Pin Number: 24; ComponentLink1Description: Manufacturer; ComponentLink1URL: http://www.we-online.de; ComponentLink2Description: Datasheet; ComponentLink2URL: https://katalog.we-online.de/em/datasheet/6620xx21122.pdf; Published Date: September 2018; Operating Temperature: -40 to 105 degC; Packaging: Tube; Gender: Male; Mounting Technology: THT; Orientation: Vertical
footprint CON-24-WE-66202421122 (Dual row Vertical header 26p)
pins: 1, 2, 3, 4, 5, 6, 7, 8, 9, 10, 11, 12, 13, 14, 15, 16, 17, 18, 19, 20, 21, 22, 23, 24

## CON-24-WE-WTB-62402421722
designator J?, comment WR-WTB 24 H
WR-WTB THT Male Horizontal Shrouded Header with positive locking, Dual Row, pitch 2mm, 24p; Manufacturer: Würth Elektronik; Manufacturer P/N: 62402421722; Pin Number: 24; Contact Resistance: 20mOhm; Rated Current: 3A; Withstanding Voltage: 1000VAC; Working Voltage: 250VAC; ComponentLink1Description: Manufacturer; ComponentLink1URL: http://www.we-online.de; ComponentLink2Description: Datasheet; ComponentLink2URL: https://www.we-online.com/catalog/datasheet/62402421722.pdf; Pitch: 2mm; Published Date: January 2020; Mounting Technology: THT; Packaging: Tube; Operating Temperature: -25 to +85degC; Gender: Male; Orientation: Horizontal; Parameter 1: *
footprint CON-24-WE-62402421722 (2.00mm Male Dual Row Horizontal Shrouded Header with positive locking, 24p)
pins: 1, 2, 3, 4, 5, 6, 7, 8, 9, 10, 11, 12, 13, 14, 15, 16, 17, 18, 19, 20, 21, 22, 23, 24

## CON-26-WE-MM-690367292676
designator J?, comment WR-MM+L
WR-MM MiniModule Connector, Female, SMT, Vertical, pitch 2.54mm, 26pins; Manufacturer P/N: 690367292676; Manufacturer: Würth Elektronik; PinNumber: 26; Insulation Resistance: >1000MOhm; Rated Current: 1.5A; Working Voltage: 100VAC; Withstanding Voltage: 500VAC; Contact Resistance: 10mOhm; Voltage (V): 100; Current (A): 1.5; Resistance: 0R010; ComponentLink1Description: Manufacturer; ComponentLink1URL: http://www.we-online.de; ComponentLink2Description: Datasheet; ComponentLink2URL: https://katalog.we-online.de/em/datasheet/690367292676.pdf; Published Date: June 2019; Publisher: Wurth Elektronik; Pitch: 2.54mm; Operating Temperature: -40 to +105degC; Mounting Technology: SMT; Packaging: Tape and Reel; Gender: Female; Orientation: Vertical; Tolerance: *; Power (W): *; Capacitance: *; Type: *; Value: =PartNumber
footprint CON-26-WE-690367292676 (MiniModule Connectors, PCB Type, Female, SMT, Vertical, 26p)
pins: 1, 2, 3, 4, 5, 6, 7, 8, 9, 10, 11, 12, 13, 14, 15, 16, 17, 18, 19, 20, 21, 22, 23, 24, 25, 26

## CON-26-WE-WTB-62402621722
designator J?, comment WR-WTB H
WR-WTB THT Male Horizontal Shrouded Header with positive locking, Dual Row, pitch 2mm, 26p; Manufacturer: Würth Elektronik; Manufacturer P/N: 62402621722; Pin Number: 26; Contact Resistance: 20mOhm; Rated Current: 3A; Withstanding Voltage: 1000VAC; Working Voltage: 250VAC; ComponentLink1Description: Manufacturer; ComponentLink1URL: http://www.we-online.de; ComponentLink2Description: Datasheet; ComponentLink2URL: https://www.we-online.com/catalog/datasheet/62402621722.pdf; Pitch: 2mm; Published Date: January 2020; Mounting Technology: THT; Packaging: Tube; Operating Temperature: -25 to +85degC; Gender: Male; Orientation: Horizontal
footprint CON-26-WE-62402621722 (2.00mm Male Dual Row Horizontal Shrouded Header with positive locking, 26p)
pins: 1, 2, 3, 4, 5, 6, 7, 8, 9, 10, 11, 12, 13, 14, 15, 16, 17, 18, 19, 20, 21, 22, 23, 24, 25, 26

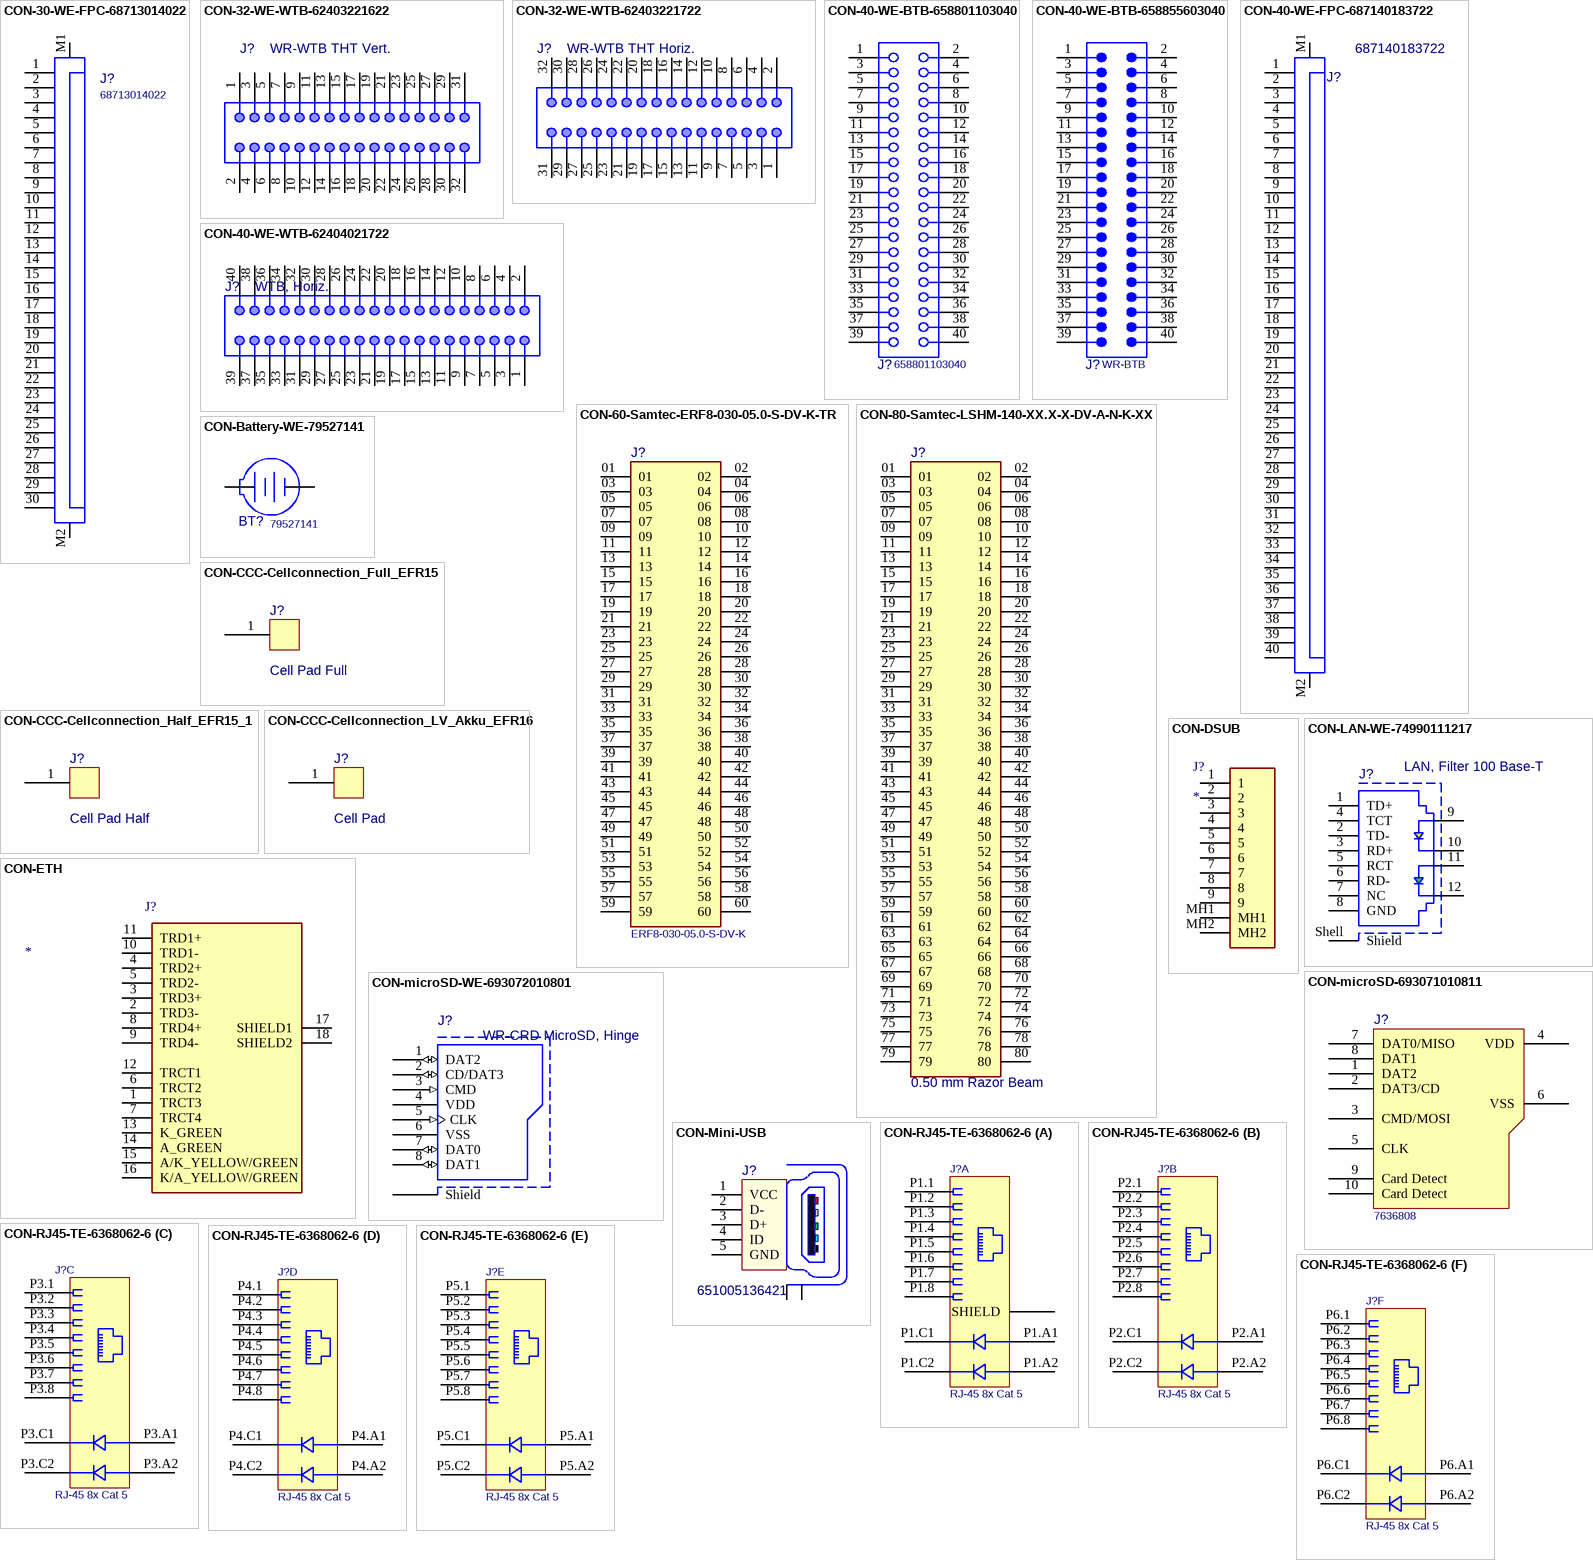
[diagram p3: symbols CON-30-WE-FPC-68713014022 to CON-RJ45-TE-6368062-6]

## CON-30-WE-FPC-68713014022
designator J?, comment 68713014022
WR-FPC SMT ZIF Horizontal Top Contact, pitch 0.5mm, Horizontal, 30pins; Manufacturer: Würth Elektronik; Op. Temperature Max (°C): 85; Op. Temperature Min (°C): -25; Contact Resistance: 20mΩ; Pin Number: 30; Rated Current: 0.5A; Voltage (V): 50; ComponentLink1Description: Website Link; ComponentLink1URL: https://www.we-online.com/redexpert/article/68713014022?ad; ComponentLink2Description: Datasheet Link; ComponentLink2URL: https://www.we-online.com/redexpert/spec/68713014022?ad; Manufacturer P/N: 68713014022; Category: FPC Connectors; Match Code: WR-FPC; Mounting Technology: SMT; Packaging: Tape and Reel; Length (mm): 21.4; Width (mm): 5.1; Height (mm): 2.1; Orientation: Horizontal; Pitch: 0.5mm
footprint CON-WE-68713014022 (ZIF Connectors, Horizontal, Top Contact, pitch 0.5mm, 30p)
pins: 1, 2, 3, 4, 5, 6, 7, 8, 9, 10, 11, 12, 13, 14, 15, 16, 17, 18, 19, 20, 21, 22, 23, 24, 25, 26, 27, 28, 29, 30, M1, M2

## CON-32-WE-WTB-62403221622
designator J?, comment WR-WTB THT Vert.
WR-WTB THT Male Vertical Shrouded Header with positive locking, Dual Row, pitch 2mm, 32p; Manufacturer: Würth Elektronik; Manufacturer P/N: 62403221622; Pin Number: 32; Contact Resistance: 20mOhm; Rated Current: 3A; Withstanding Voltage: 1000VAC; Working Voltage: 250VAC; ComponentLink1Description: Manufacturer; ComponentLink1URL: https://www.we-online.com/catalog/en/WTB_2_00_MALE_DUAL_ROW_VERTICAL_SHROUDED_HEADER_W_POSITIVE_LOCKING_6240XX21622#62403221622; ComponentLink2Description: Datasheet; ComponentLink2URL: https://www.we-online.com/catalog/datasheet/62403221622.pdf; Pitch: 2mm; Published Date: January 2020; Mounting Technology: THT; Packaging: Tube; Operating Temperature: -25 to +85degC; Gender: Male; Type: Vertical
footprint CON-32-WE-62403221622 (2.00mm Male Dual Row Vertical Shrouded Header with positive locking, 32p)
pins: 1, 2, 3, 4, 5, 6, 7, 8, 9, 10, 11, 12, 13, 14, 15, 16, 17, 18, 19, 20, 21, 22, 23, 24, 25, 26, 27, 28, 29, 30, 31, 32

## CON-32-WE-WTB-62403221722
designator J?, comment WR-WTB THT Horiz.
WR-WTB THT Male Horizontal Shrouded Header with positive locking, Dual Row, pitch 2mm, 32p; Manufacturer: Würth Elektronik; Manufacturer P/N: 62403221722; Pin Number: 32; Contact Resistance: 20mOhm; Rated Current: 3A; Withstanding Voltage: 1000VAC; Working Voltage: 250VAC; ComponentLink1Description: Manufacturer; ComponentLink1URL: https://www.we-online.com/catalog/en/WTB_2_00_MALE_DUAL_ROW_HORIZONTAL_SHROUDED_HEADER_W_POSITIVE_LOCKING_6240XX21722#62403221722; ComponentLink2Description: Datasheet; ComponentLink2URL: https://www.we-online.com/catalog/datasheet/62403221722.pdf; Pitch: 2mm; Published Date: January 2020; Mounting Technology: THT; Packaging: Tube; Operating Temperature: -25 to +85degC; Gender: Male; Type: Horizontal
footprint CON-32-WE-62403221722 (2.00mm Male Dual Row Horizontal Shrouded Header with positive locking, 32p)
pins: 1, 2, 3, 4, 5, 6, 7, 8, 9, 10, 11, 12, 13, 14, 15, 16, 17, 18, 19, 20, 21, 22, 23, 24, 25, 26, 27, 28, 29, 30, 31, 32

## CON-40-WE-BTB-658801103040
designator J?, comment 658801103040
WR-BTB Board to Board Connector, Female Receptacle, pitch 0.8mm, height 11.75mm, 40p; Manufacturer: Würth Elektronik; Compliance: Lead free / RoHS; Contact Resistance: 50mΩ; Insulation Resistance: 100MΩ; Rated Current: 0.5A; Working Voltage: 50VAC; Withstanding Voltage: 500VAC; ComponentLink1Description: Website Link; ComponentLink1URL: https://www.we-online.com/redexpert/article/658801103040?ad; ComponentLink2Description: Datasheet Link; ComponentLink2URL: https://www.we-online.com/redexpert/spec/658801103040?ad; Manufacturer P/N: 658801103040; Category: Board-to-Board Connectors; Match Code: WR-BTB; Mounting Technology: SMT; Operating Temperature Max: 85°C; Operating Temperature Min: -55°C; Packaging: Tape and Reel; Height: 11.75mm; Gender: Female Receptacle; Number of Pins: 40; Orientation: Vertical; Pitch: 0.8mm
footprint 658801103040
pins: 1, 2, 3, 4, 5, 6, 7, 8, 9, 10, 11, 12, 13, 14, 15, 16, 17, 18, 19, 20, 21, 22, 23, 24, 25, 26, 27, 28, 29, 30, 31, 32, 33, 34, 35, 36, 37, 38, 39, 40

## CON-40-WE-BTB-658855603040
designator J?, comment WR-BTB
WR-BTB Board to Board Connector, Male Plug, pitch 0.8mm, height 5.6mm, 40p; Manufacturer P/N: 658855603040; Manufacturer: Würth Elektronik; Compliance: Lead free / RoHS; Contact Resistance: 50mΩ; Insulation Resistance: 100MΩ; Rated Current: 0.5A; Working Voltage: 50VAC; Withstanding Voltage: 500VAC; ComponentLink1Description: Website Link; ComponentLink1URL: https://www.we-online.com/redexpert/article/658855603040?ad; ComponentLink2Description: Datasheet Link; ComponentLink2URL: https://www.we-online.com/redexpert/spec/658855603040?ad; Category: Board-to-Board Connectors; Match Code: WR-BTB; Mount: SMT; Operating Temperature Max: 85°C; Operating Temperature Min: -55°C; Packaging: Tape and Reel; Height: 5.6mm; Gender: Male Plug; Number of Pins: 40; Orientation: Vertical; Pitch: 0.8mm
footprint 658855603040
pins: 1, 2, 3, 4, 5, 6, 7, 8, 9, 10, 11, 12, 13, 14, 15, 16, 17, 18, 19, 20, 21, 22, 23, 24, 25, 26, 27, 28, 29, 30, 31, 32, 33, 34, 35, 36, 37, 38, 39, 40

## CON-40-WE-FPC-687140183722
designator J?, comment 687140183722
WR-FPC SMT ZIF Horizontal Bottom Contact Low Profile, pitch 0.5mm, Horizontal, 40pins; Manufacturer: Würth Elektronik; Contact Resistance: 30mΩ; Rated Current: 0.4A; Working Voltage: 50VAC; ComponentLink1Description: Website Link; ComponentLink1URL: https://www.we-online.com/redexpert/article/687140183722?ad; ComponentLink2Description: Datasheet Link; ComponentLink2URL: https://www.we-online.com/redexpert/spec/687140183722?ad; Manufacturer P/N: 687140183722; Category: FPC Connectors; Match Code: WR-FPC; Mounting Technology: SMT; Operating Temperature Max: 85°C; Operating Temperature Min: -25°C; Packaging: Tape and Reel; Length: 25.7mm; Width: 4.25mm; Height: 1.2mm; Number of Pins: 40; Orientation: Horizontal; Pitch: 0.5mm
footprint CON-40-WE-687140183722 (ZIF Connectors, Horizontal, Bottom Contact Low Profile, pitch 0.5mm, 40p)
pins: 1, 2, 3, 4, 5, 6, 7, 8, 9, 10, 11, 12, 13, 14, 15, 16, 17, 18, 19, 20, 21, 22, 23, 24, 25, 26, 27, 28, 29, 30, 31, 32, 33, 34, 35, 36, 37, 38, 39, 40, M1, M2

## CON-40-WE-WTB-62404021722
designator J?, comment WTB, Horiz.
WR-WTB THT Male Horizontal Shrouded Header with positive locking, Dual Row, pitch 2mm, 40p; Manufacturer: Würth Elektronik; Manufacturer P/N: 62404021722; Pin Number: 40; Contact Resistance: 20mOhm; Rated Current: 3A; Withstanding Voltage: 1000VAC; Working Voltage: 250VAC; ComponentLink1Description: Manufacturer; ComponentLink1URL: http://www.we-online.de; ComponentLink2Description: Datasheet; ComponentLink2URL: https://www.we-online.com/catalog/datasheet/62404021722.pdf; Pitch: 2mm; Published Date: January 2020; Mounting Technology: THT; Packaging: Tube; Operating Temperature: -25 to +85degC; Gender: Male; Orientation: Horizontal
footprint CON-40-WE-62404021722 (2.00mm Male Dual Row Horizontal Shrouded Header with positive locking, 40p)
pins: 1, 2, 3, 4, 5, 6, 7, 8, 9, 10, 11, 12, 13, 14, 15, 16, 17, 18, 19, 20, 21, 22, 23, 24, 25, 26, 27, 28, 29, 30, 31, 32, 33, 34, 35, 36, 37, 38, 39, 40

## CON-60-Samtec-ERF8-030-05.0-S-DV-K-TR
designator J?, comment ERF8-030-05.0-S-DV-K
Samtec Edge Rate® ERF8-Series Rugged High Speed Socket 0.80mm; Manufacturer P/N: ERF8-030-05.0-S-DV-K-TR; Package: Custom; Manufacturer: Samtec; Mounting Technology: SMT; Supplier 1: Mouser; Supplier Part Number 1: 200-ERF8030050SDVKTR; Supplier 2: Digikey; Supplier Part Number 2: SAM8620CT-ND
footprint CON-60-SAMTEC_ERF8-030-05.0-S-DV-K-TR (Footprint not found)
pins: 01, 02, 03, 04, 05, 06, 07, 08, 09, 10, 11, 12, 13, 14, 15, 16, 17, 18, 19, 20, 21, 22, 23, 24, 25, 26, 27, 28, 29, 30, 31, 32, 33, 34, 35, 36, 37, 38, 39, 40, 41, 42, 43, 44, 45, 46, 47, 48, 49, 50, 51, 52, 53, 54, 55, 56, 57, 58, 59, 60